# Altium footprint library GBU.PcbLib: 1 footprints
Each footprint in its own frame and in the unit in brackets; x right, y up, seen from the top. Pads: shape width x height; smd on the part's side, far side on the other; paste and mask are expansions set on the pad; w line width, h text height; cw(c..) or ccw(c..) is an arc to the next point about the centre after c.
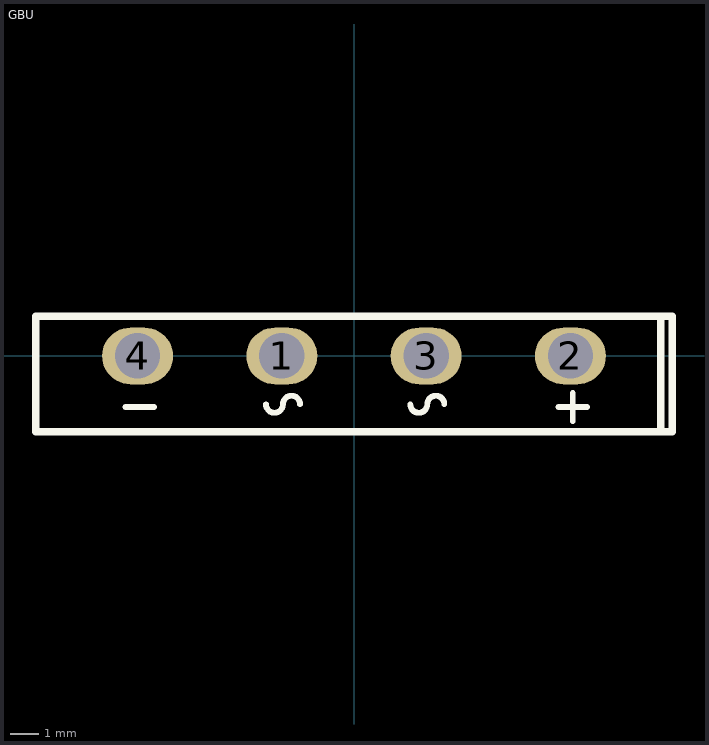
[diagram p0: the footprint, top view; thin cyan lines are the x and y axes]

## GBU [mm]
pads (4):
  oval 2.5x2 hole 1.6: 1(-2.54,0) 2(7.62,0) 3(2.54,0) 4(-7.62,0)
Top Overlay:
  lines w0.203: -8.04,-1.8 -7.04,-1.8 ; -3.1,-1.7 ccw(c-2.8,-1.7) -2.5,-1.7 cw(c-2.2,-1.7) -1.9,-1.7 ; 1.98,-1.7 ccw(c2.28,-1.7) 2.58,-1.7 cw(c2.88,-1.7) 3.18,-1.7 ; 7.2,-1.8 8.2,-1.8 ; 7.7,-2.3 7.7,-1.3
  lines w0.254: 10.8,-2.67 10.8,1.3 ; -11.2,-2.67 11.2,-2.67 11.2,1.4 -11.2,1.4 -11.2,-2.67